# Altium footprint library QFN_Sq_65P_Side_M.PcbLib: 52 footprints (part 4 of 4)
Each footprint in its own frame and in the unit in brackets; x right, y up, seen from the top. Pads: shape width x height; smd on the part's side, far side on the other; paste and mask are expansions set on the pad; w line width, h text height; cw(c..) or ccw(c..) is an arc to the next point about the centre after c.
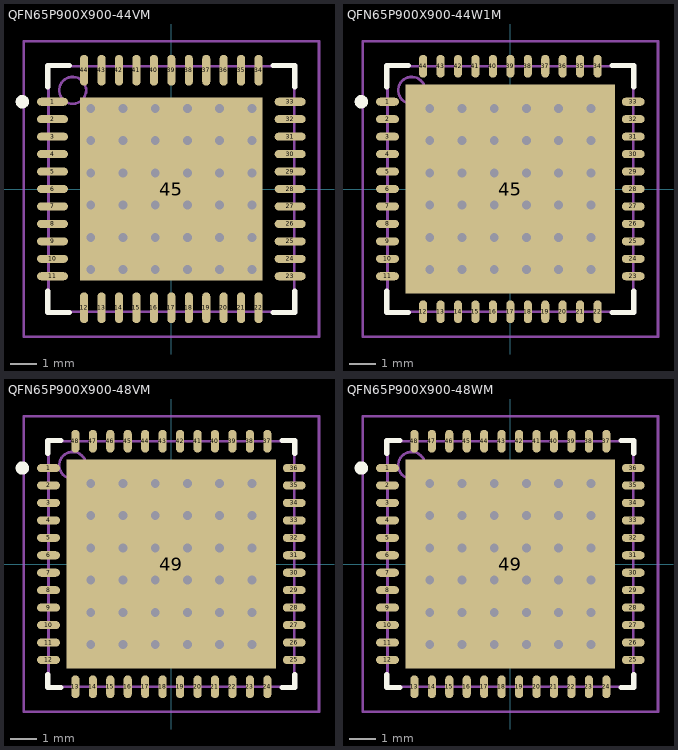
[diagram p3: the footprints below, top view; thin cyan lines are the x and y axes]

## QFN65P900X900-44VM [mm] "QFN, 44-Leads, Body 9x9 mm, Pitch 0.65mm, IPC Low Density"
height 1
pads (45):
  oval 1.15x0.3 smd: 1(-4.425,3.25) 2(-4.425,2.6) 3(-4.425,1.95) 4(-4.425,1.3) 5(-4.425,0.65) 6(-4.425,0) 7(-4.425,-0.65) 8(-4.425,-1.3) 9(-4.425,-1.95) 10(-4.425,-2.6) 11(-4.425,-3.25) 23(4.425,-3.25) 24(4.425,-2.6) 25(4.425,-1.95) 26(4.425,-1.3) 27(4.425,-0.65) 28(4.425,0) 29(4.425,0.65) 30(4.425,1.3) 31(4.425,1.95) 32(4.425,2.6) 33(4.425,3.25)
  oval 0.3x1.15 smd: 12(-3.25,-4.425) 13(-2.6,-4.425) 14(-1.95,-4.425) 15(-1.3,-4.425) 16(-0.65,-4.425) 17(0,-4.425) 18(0.65,-4.425) 19(1.3,-4.425) 20(1.95,-4.425) 21(2.6,-4.425) 22(3.25,-4.425) 34(3.25,4.425) 35(2.6,4.425) 36(1.95,4.425) 37(1.3,4.425) 38(0.65,4.425) 39(0,4.425) 40(-0.65,4.425) 41(-1.3,4.425) 42(-1.95,4.425) 43(-2.6,4.425) 44(-3.25,4.425)
  rect 6.8x6.8 smd: 45(0,0)
via 3,-3 diameter 0.66 hole 0.33
via 1.8,-3 diameter 0.66 hole 0.33
via 0.6,-3 diameter 0.66 hole 0.33
via -0.6,-3 diameter 0.66 hole 0.33
via -1.8,-3 diameter 0.66 hole 0.33
via -3,-3 diameter 0.66 hole 0.33
via 3,-1.8 diameter 0.66 hole 0.33
via 1.8,-1.8 diameter 0.66 hole 0.33
via 0.6,-1.8 diameter 0.66 hole 0.33
via -0.6,-1.8 diameter 0.66 hole 0.33
via -1.8,-1.8 diameter 0.66 hole 0.33
via -3,-1.8 diameter 0.66 hole 0.33
via 3,-0.6 diameter 0.66 hole 0.33
via 1.8,-0.6 diameter 0.66 hole 0.33
via 0.6,-0.6 diameter 0.66 hole 0.33
via -0.6,-0.6 diameter 0.66 hole 0.33
via -1.8,-0.6 diameter 0.66 hole 0.33
via -3,-0.6 diameter 0.66 hole 0.33
via 3,0.6 diameter 0.66 hole 0.33
via 1.8,0.6 diameter 0.66 hole 0.33
via 0.6,0.6 diameter 0.66 hole 0.33
via -0.6,0.6 diameter 0.66 hole 0.33
via -1.8,0.6 diameter 0.66 hole 0.33
via -3,0.6 diameter 0.66 hole 0.33
via 3,1.8 diameter 0.66 hole 0.33
via 1.8,1.8 diameter 0.66 hole 0.33
via 0.6,1.8 diameter 0.66 hole 0.33
via -0.6,1.8 diameter 0.66 hole 0.33
via -1.8,1.8 diameter 0.66 hole 0.33
via -3,1.8 diameter 0.66 hole 0.33
via 3,3 diameter 0.66 hole 0.33
via 1.8,3 diameter 0.66 hole 0.33
via 0.6,3 diameter 0.66 hole 0.33
via -0.6,3 diameter 0.66 hole 0.33
via -1.8,3 diameter 0.66 hole 0.33
via -3,3 diameter 0.66 hole 0.33
Top Overlay:
  circle w0.25: c-5.55,3.25 r0.125
  lines w0.2: -4.6,-3.8 -4.6,-4.6 -3.8,-4.6 ; -4.6,3.8 -4.6,4.6 -3.8,4.6 ; 3.8,-4.6 4.6,-4.6 4.6,-3.8 ; 3.8,4.6 4.6,4.6 4.6,3.8
Mechanical 13:
  circle w0.1: c-3.675,3.675 r0.5
  lines w0.1: -4.575,-4.575 4.575,-4.575 4.575,4.575 -4.575,4.575 -4.575,-4.575
Mechanical 15:
  lines w0.1: -0.5,0 0.5,0 ; 0,-0.5 0,0.5 ; -5.5,-5.5 5.5,-5.5 5.5,5.5 -5.5,5.5 -5.5,-5.5
3D body: height 1, standoff 0, extent -4.575,-4.575 4.575,4.575

## QFN65P900X900-44W1M [mm] "QFN, 44-Leads, Body 9x9 mm, Pitch 0.65mm, IPC Low Density"
height 0.8
pads (45):
  oval 0.85x0.3 smd: 1(-4.575,3.25) 2(-4.575,2.6) 3(-4.575,1.95) 4(-4.575,1.3) 5(-4.575,0.65) 6(-4.575,0) 7(-4.575,-0.65) 8(-4.575,-1.3) 9(-4.575,-1.95) 10(-4.575,-2.6) 11(-4.575,-3.25) 23(4.575,-3.25) 24(4.575,-2.6) 25(4.575,-1.95) 26(4.575,-1.3) 27(4.575,-0.65) 28(4.575,0) 29(4.575,0.65) 30(4.575,1.3) 31(4.575,1.95) 32(4.575,2.6) 33(4.575,3.25)
  oval 0.3x0.85 smd: 12(-3.25,-4.575) 13(-2.6,-4.575) 14(-1.95,-4.575) 15(-1.3,-4.575) 16(-0.65,-4.575) 17(0,-4.575) 18(0.65,-4.575) 19(1.3,-4.575) 20(1.95,-4.575) 21(2.6,-4.575) 22(3.25,-4.575) 34(3.25,4.575) 35(2.6,4.575) 36(1.95,4.575) 37(1.3,4.575) 38(0.65,4.575) 39(0,4.575) 40(-0.65,4.575) 41(-1.3,4.575) 42(-1.95,4.575) 43(-2.6,4.575) 44(-3.25,4.575)
  rect 7.8x7.8 smd: 45(0,0)
via 3,-3 diameter 0.66 hole 0.33
via 1.8,-3 diameter 0.66 hole 0.33
via 0.6,-3 diameter 0.66 hole 0.33
via -0.6,-3 diameter 0.66 hole 0.33
via -1.8,-3 diameter 0.66 hole 0.33
via -3,-3 diameter 0.66 hole 0.33
via 3,-1.8 diameter 0.66 hole 0.33
via 1.8,-1.8 diameter 0.66 hole 0.33
via 0.6,-1.8 diameter 0.66 hole 0.33
via -0.6,-1.8 diameter 0.66 hole 0.33
via -1.8,-1.8 diameter 0.66 hole 0.33
via -3,-1.8 diameter 0.66 hole 0.33
via 3,-0.6 diameter 0.66 hole 0.33
via 1.8,-0.6 diameter 0.66 hole 0.33
via 0.6,-0.6 diameter 0.66 hole 0.33
via -0.6,-0.6 diameter 0.66 hole 0.33
via -1.8,-0.6 diameter 0.66 hole 0.33
via -3,-0.6 diameter 0.66 hole 0.33
via 3,0.6 diameter 0.66 hole 0.33
via 1.8,0.6 diameter 0.66 hole 0.33
via 0.6,0.6 diameter 0.66 hole 0.33
via -0.6,0.6 diameter 0.66 hole 0.33
via -1.8,0.6 diameter 0.66 hole 0.33
via -3,0.6 diameter 0.66 hole 0.33
via 3,1.8 diameter 0.66 hole 0.33
via 1.8,1.8 diameter 0.66 hole 0.33
via 0.6,1.8 diameter 0.66 hole 0.33
via -0.6,1.8 diameter 0.66 hole 0.33
via -1.8,1.8 diameter 0.66 hole 0.33
via -3,1.8 diameter 0.66 hole 0.33
via 3,3 diameter 0.66 hole 0.33
via 1.8,3 diameter 0.66 hole 0.33
via 0.6,3 diameter 0.66 hole 0.33
via -0.6,3 diameter 0.66 hole 0.33
via -1.8,3 diameter 0.66 hole 0.33
via -3,3 diameter 0.66 hole 0.33
Top Overlay:
  circle w0.25: c-5.55,3.25 r0.125
  lines w0.2: -4.6,-3.8 -4.6,-4.6 -3.8,-4.6 ; -4.6,3.8 -4.6,4.6 -3.8,4.6 ; 3.8,-4.6 4.6,-4.6 4.6,-3.8 ; 3.8,4.6 4.6,4.6 4.6,3.8
Mechanical 13:
  circle w0.1: c-3.675,3.675 r0.5
  lines w0.1: -4.575,-4.575 4.575,-4.575 4.575,4.575 -4.575,4.575 -4.575,-4.575
Mechanical 15:
  lines w0.1: -0.5,0 0.5,0 ; 0,-0.5 0,0.5 ; -5.5,-5.5 5.5,-5.5 5.5,5.5 -5.5,5.5 -5.5,-5.5
3D body: height 0.8, standoff 0, extent -4.575,-4.575 4.575,4.575

## QFN65P900X900-48VM [mm] "QFN, 48-Leads, Body 9x9 mm, Pitch 0.65mm, IPC Low Density"
height 1
pads (49):
  oval 0.85x0.3 smd: 1(-4.575,3.575) 2(-4.575,2.925) 3(-4.575,2.275) 4(-4.575,1.625) 5(-4.575,0.975) 6(-4.575,0.325) 7(-4.575,-0.325) 8(-4.575,-0.975) 9(-4.575,-1.625) 10(-4.575,-2.275) 11(-4.575,-2.925) 12(-4.575,-3.575) 25(4.575,-3.575) 26(4.575,-2.925) 27(4.575,-2.275) 28(4.575,-1.625) 29(4.575,-0.975) 30(4.575,-0.325) 31(4.575,0.325) 32(4.575,0.975) 33(4.575,1.625) 34(4.575,2.275) 35(4.575,2.925) 36(4.575,3.575)
  oval 0.3x0.85 smd: 13(-3.575,-4.575) 14(-2.925,-4.575) 15(-2.275,-4.575) 16(-1.625,-4.575) 17(-0.975,-4.575) 18(-0.325,-4.575) 19(0.325,-4.575) 20(0.975,-4.575) 21(1.625,-4.575) 22(2.275,-4.575) 23(2.925,-4.575) 24(3.575,-4.575) 37(3.575,4.575) 38(2.925,4.575) 39(2.275,4.575) 40(1.625,4.575) 41(0.975,4.575) 42(0.325,4.575) 43(-0.325,4.575) 44(-0.975,4.575) 45(-1.625,4.575) 46(-2.275,4.575) 47(-2.925,4.575) 48(-3.575,4.575)
  rect 7.8x7.8 smd: 49(0,0)
via 3,-3 diameter 0.66 hole 0.33
via 1.8,-3 diameter 0.66 hole 0.33
via 0.6,-3 diameter 0.66 hole 0.33
via -0.6,-3 diameter 0.66 hole 0.33
via -1.8,-3 diameter 0.66 hole 0.33
via -3,-3 diameter 0.66 hole 0.33
via 3,-1.8 diameter 0.66 hole 0.33
via 1.8,-1.8 diameter 0.66 hole 0.33
via 0.6,-1.8 diameter 0.66 hole 0.33
via -0.6,-1.8 diameter 0.66 hole 0.33
via -1.8,-1.8 diameter 0.66 hole 0.33
via -3,-1.8 diameter 0.66 hole 0.33
via 3,-0.6 diameter 0.66 hole 0.33
via 1.8,-0.6 diameter 0.66 hole 0.33
via 0.6,-0.6 diameter 0.66 hole 0.33
via -0.6,-0.6 diameter 0.66 hole 0.33
via -1.8,-0.6 diameter 0.66 hole 0.33
via -3,-0.6 diameter 0.66 hole 0.33
via 3,0.6 diameter 0.66 hole 0.33
via 1.8,0.6 diameter 0.66 hole 0.33
via 0.6,0.6 diameter 0.66 hole 0.33
via -0.6,0.6 diameter 0.66 hole 0.33
via -1.8,0.6 diameter 0.66 hole 0.33
via -3,0.6 diameter 0.66 hole 0.33
via 3,1.8 diameter 0.66 hole 0.33
via 1.8,1.8 diameter 0.66 hole 0.33
via 0.6,1.8 diameter 0.66 hole 0.33
via -0.6,1.8 diameter 0.66 hole 0.33
via -1.8,1.8 diameter 0.66 hole 0.33
via -3,1.8 diameter 0.66 hole 0.33
via 3,3 diameter 0.66 hole 0.33
via 1.8,3 diameter 0.66 hole 0.33
via 0.6,3 diameter 0.66 hole 0.33
via -0.6,3 diameter 0.66 hole 0.33
via -1.8,3 diameter 0.66 hole 0.33
via -3,3 diameter 0.66 hole 0.33
Top Overlay:
  circle w0.25: c-5.55,3.575 r0.125
  lines w0.2: -4.6,-4.125 -4.6,-4.6 -4.125,-4.6 ; -4.6,4.125 -4.6,4.6 -4.125,4.6 ; 4.125,-4.6 4.6,-4.6 4.6,-4.125 ; 4.125,4.6 4.6,4.6 4.6,4.125
Mechanical 13:
  circle w0.1: c-3.675,3.675 r0.5
  lines w0.1: -4.575,-4.575 4.575,-4.575 4.575,4.575 -4.575,4.575 -4.575,-4.575
Mechanical 15:
  lines w0.1: -0.5,0 0.5,0 ; 0,-0.5 0,0.5 ; -5.5,-5.5 5.5,-5.5 5.5,5.5 -5.5,5.5 -5.5,-5.5
3D body: height 1, standoff 0, extent -4.575,-4.575 4.575,4.575

## QFN65P900X900-48WM [mm] "QFN, 48-Leads, Body 9x9 mm, Pitch 0.65mm, IPC Low Density"
height 0.8
pads (49):
  oval 0.85x0.3 smd: 1(-4.575,3.575) 2(-4.575,2.925) 3(-4.575,2.275) 4(-4.575,1.625) 5(-4.575,0.975) 6(-4.575,0.325) 7(-4.575,-0.325) 8(-4.575,-0.975) 9(-4.575,-1.625) 10(-4.575,-2.275) 11(-4.575,-2.925) 12(-4.575,-3.575) 25(4.575,-3.575) 26(4.575,-2.925) 27(4.575,-2.275) 28(4.575,-1.625) 29(4.575,-0.975) 30(4.575,-0.325) 31(4.575,0.325) 32(4.575,0.975) 33(4.575,1.625) 34(4.575,2.275) 35(4.575,2.925) 36(4.575,3.575)
  oval 0.3x0.85 smd: 13(-3.575,-4.575) 14(-2.925,-4.575) 15(-2.275,-4.575) 16(-1.625,-4.575) 17(-0.975,-4.575) 18(-0.325,-4.575) 19(0.325,-4.575) 20(0.975,-4.575) 21(1.625,-4.575) 22(2.275,-4.575) 23(2.925,-4.575) 24(3.575,-4.575) 37(3.575,4.575) 38(2.925,4.575) 39(2.275,4.575) 40(1.625,4.575) 41(0.975,4.575) 42(0.325,4.575) 43(-0.325,4.575) 44(-0.975,4.575) 45(-1.625,4.575) 46(-2.275,4.575) 47(-2.925,4.575) 48(-3.575,4.575)
  rect 7.8x7.8 smd: 49(0,0)
via 3,-3 diameter 0.66 hole 0.33
via 1.8,-3 diameter 0.66 hole 0.33
via 0.6,-3 diameter 0.66 hole 0.33
via -0.6,-3 diameter 0.66 hole 0.33
via -1.8,-3 diameter 0.66 hole 0.33
via -3,-3 diameter 0.66 hole 0.33
via 3,-1.8 diameter 0.66 hole 0.33
via 1.8,-1.8 diameter 0.66 hole 0.33
via 0.6,-1.8 diameter 0.66 hole 0.33
via -0.6,-1.8 diameter 0.66 hole 0.33
via -1.8,-1.8 diameter 0.66 hole 0.33
via -3,-1.8 diameter 0.66 hole 0.33
via 3,-0.6 diameter 0.66 hole 0.33
via 1.8,-0.6 diameter 0.66 hole 0.33
via 0.6,-0.6 diameter 0.66 hole 0.33
via -0.6,-0.6 diameter 0.66 hole 0.33
via -1.8,-0.6 diameter 0.66 hole 0.33
via -3,-0.6 diameter 0.66 hole 0.33
via 3,0.6 diameter 0.66 hole 0.33
via 1.8,0.6 diameter 0.66 hole 0.33
via 0.6,0.6 diameter 0.66 hole 0.33
via -0.6,0.6 diameter 0.66 hole 0.33
via -1.8,0.6 diameter 0.66 hole 0.33
via -3,0.6 diameter 0.66 hole 0.33
via 3,1.8 diameter 0.66 hole 0.33
via 1.8,1.8 diameter 0.66 hole 0.33
via 0.6,1.8 diameter 0.66 hole 0.33
via -0.6,1.8 diameter 0.66 hole 0.33
via -1.8,1.8 diameter 0.66 hole 0.33
via -3,1.8 diameter 0.66 hole 0.33
via 3,3 diameter 0.66 hole 0.33
via 1.8,3 diameter 0.66 hole 0.33
via 0.6,3 diameter 0.66 hole 0.33
via -0.6,3 diameter 0.66 hole 0.33
via -1.8,3 diameter 0.66 hole 0.33
via -3,3 diameter 0.66 hole 0.33
Top Overlay:
  circle w0.25: c-5.55,3.575 r0.125
  lines w0.2: -4.6,-4.125 -4.6,-4.6 -4.125,-4.6 ; -4.6,4.125 -4.6,4.6 -4.125,4.6 ; 4.125,-4.6 4.6,-4.6 4.6,-4.125 ; 4.125,4.6 4.6,4.6 4.6,4.125
Mechanical 13:
  circle w0.1: c-3.675,3.675 r0.5
  lines w0.1: -4.575,-4.575 4.575,-4.575 4.575,4.575 -4.575,4.575 -4.575,-4.575
Mechanical 15:
  lines w0.1: -0.5,0 0.5,0 ; 0,-0.5 0,0.5 ; -5.5,-5.5 5.5,-5.5 5.5,5.5 -5.5,5.5 -5.5,-5.5
3D body: height 0.8, standoff 0, extent -4.575,-4.575 4.575,4.575